# EAGLE library part ATMEGA3290/6490 (library atmel-avr)
MICROCONTROLLER
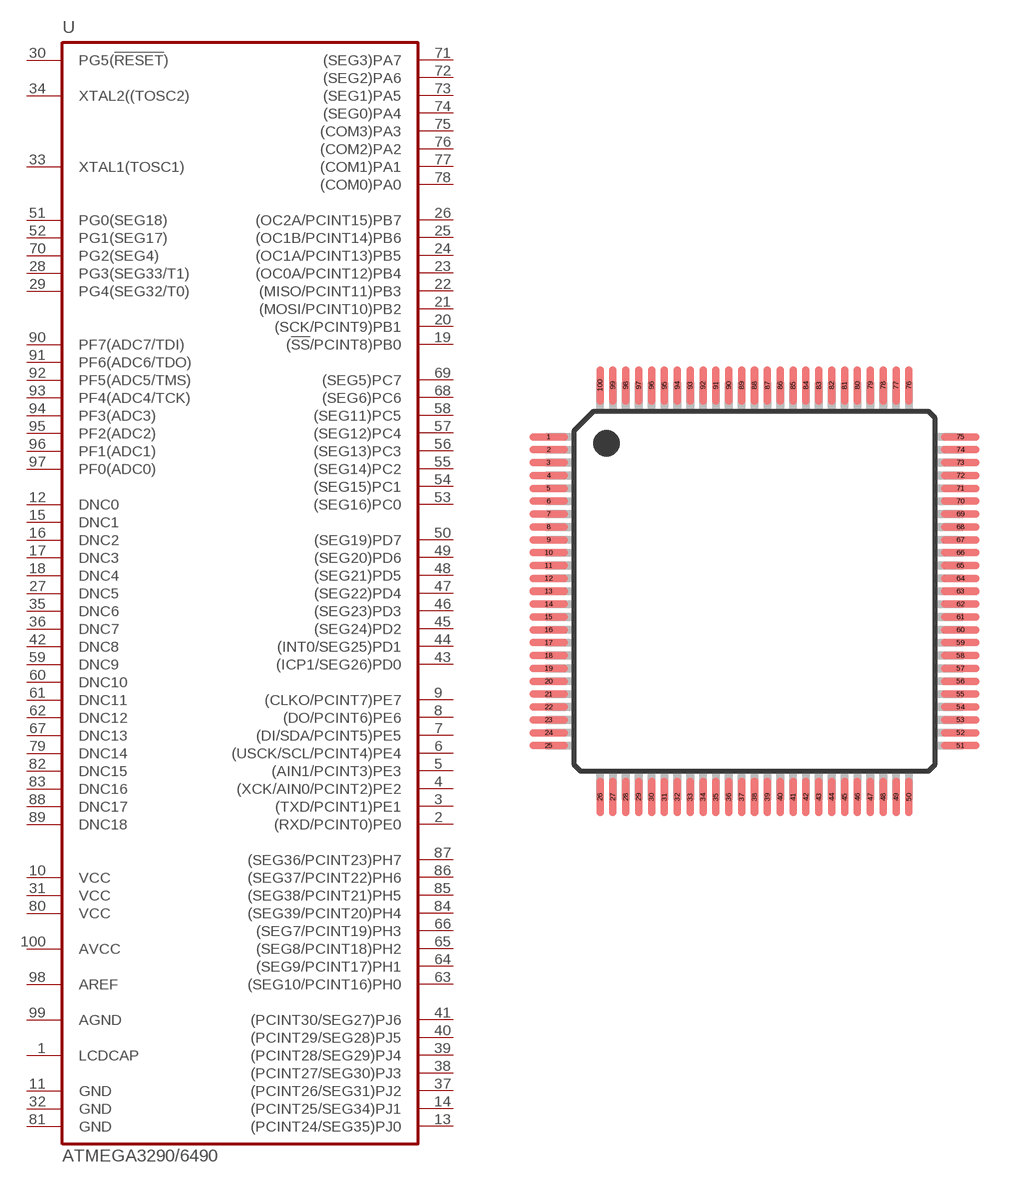
[diagram p13: symbol with the pads of TQFP100A; footprint TQFP100A]

Designator prefix U

## ATMEGA3290/6490-A  [TQFP100A]
1  LCDCAP  pas
2  (RXD/PCINT0)PE0
3  (TXD/PCINT1)PE1
4  (XCK/AIN0/PCINT2)PE2
5  (AIN1/PCINT3)PE3
6  (USCK/SCL/PCINT4)PE4
7  (DI/SDA/PCINT5)PE5
8  (DO/PCINT6)PE6
9  (CLKO/PCINT7)PE7
10  VCC  pwr
11  GND  pwr
12  DNC0  nc
13  (PCINT24/SEG35)PJ0
14  (PCINT25/SEG34)PJ1
15  DNC1  nc
16  DNC2  nc
17  DNC3  nc
18  DNC4  nc
19  (!SS!/PCINT8)PB0
20  (SCK/PCINT9)PB1
21  (MOSI/PCINT10)PB2
22  (MISO/PCINT11)PB3
23  (OC0A/PCINT12)PB4
24  (OC1A/PCINT13)PB5
25  (OC1B/PCINT14)PB6
26  (OC2A/PCINT15)PB7
27  DNC5  nc
28  PG3(SEG33/T1)
29  PG4(SEG32/T0)
30  PG5(!RESET!)  in
31  VCC  pwr
32  GND  pwr
33  XTAL1(TOSC1)  pas
34  XTAL2((TOSC2)  pas
35  DNC6  nc
36  DNC7  nc
37  (PCINT26/SEG31)PJ2
38  (PCINT27/SEG30)PJ3
39  (PCINT28/SEG29)PJ4
40  (PCINT29/SEG28)PJ5
41  (PCINT30/SEG27)PJ6
42  DNC8  nc
43  (ICP1/SEG26)PD0
44  (INT0/SEG25)PD1
45  (SEG24)PD2
46  (SEG23)PD3
47  (SEG22)PD4
48  (SEG21)PD5
49  (SEG20)PD6
50  (SEG19)PD7
51  PG0(SEG18)
52  PG1(SEG17)
53  (SEG16)PC0
54  (SEG15)PC1
55  (SEG14)PC2
56  (SEG13)PC3
57  (SEG12)PC4
58  (SEG11)PC5
59  DNC9  nc
60  DNC10  nc
61  DNC11  nc
62  DNC12  nc
63  (SEG10/PCINT16)PH0
64  (SEG9/PCINT17)PH1
65  (SEG8/PCINT18)PH2
66  (SEG7/PCINT19)PH3
67  DNC13  nc
68  (SEG6)PC6
69  (SEG5)PC7
70  PG2(SEG4)
71  (SEG3)PA7
72  (SEG2)PA6
73  (SEG1)PA5
74  (SEG0)PA4
75  (COM3)PA3
76  (COM2)PA2
77  (COM1)PA1
78  (COM0)PA0
79  DNC14  nc
80  VCC  pwr
81  GND  pwr
82  DNC15  nc
83  DNC16  nc
84  (SEG39/PCINT20)PH4
85  (SEG38/PCINT21)PH5
86  (SEG37/PCINT22)PH6
87  (SEG36/PCINT23)PH7
88  DNC17  nc
89  DNC18  nc
90  PF7(ADC7/TDI)  in
91  PF6(ADC6/TDO)  out
92  PF5(ADC5/TMS)  in
93  PF4(ADC4/TCK)  in
94  PF3(ADC3)
95  PF2(ADC2)
96  PF1(ADC1)
97  PF0(ADC0)
98  AREF  pas
99  AGND  pwr
100  AVCC  pwr

## Footprint TQFP100A (pad centres in mm)
Thin Profile Plastic Quad Flat Package (TQFP) 100-lead, 14 x 14 mm Body Size, 1.0 mm Body Thickness, 0.5 mm Lead Pitch,
smd 1.5 x 0.3: 1 -8,6; 2 -8,5.5; 3 -8,5; 4 -8,4.5; 5 -8,4; 6 -8,3.5; 7 -8,3; 8 -8,2.5; 9 -8,2; 10 -8,1.5; 11 -8,1; 12 -8,0.5; 13 -8,0; 14 -8,-0.5; 15 -8,-1; 16 -8,-1.5; 17 -8,-2; 18 -8,-2.5; 19 -8,-3; 20 -8,-3.5; 21 -8,-4; 22 -8,-4.5; 23 -8,-5; 24 -8,-5.5; 25 -8,-6; 51 8,-6; 52 8,-5.5; 53 8,-5; 54 8,-4.5; 55 8,-4; 56 8,-3.5; 57 8,-3; 58 8,-2.5; 59 8,-2; 60 8,-1.5; 61 8,-1; 62 8,-0.5; 63 8,0; 64 8,0.5; 65 8,1; 66 8,1.5; 67 8,2; 68 8,2.5; 69 8,3; 70 8,3.5; 71 8,4; 72 8,4.5; 73 8,5; 74 8,5.5; 75 8,6
smd 0.3 x 1.5: 26 -6,-8; 27 -5.5,-8; 28 -5,-8; 29 -4.5,-8; 30 -4,-8; 31 -3.5,-8; 32 -3,-8; 33 -2.5,-8; 34 -2,-8; 35 -1.5,-8; 36 -1,-8; 37 -0.5,-8; 38 0,-8; 39 0.5,-8; 40 1,-8; 41 1.5,-8; 42 2,-8; 43 2.5,-8; 44 3,-8; 45 3.5,-8; 46 4,-8; 47 4.5,-8; 48 5,-8; 49 5.5,-8; 50 6,-8; 76 6,8; 77 5.5,8; 78 5,8; 79 4.5,8; 80 4,8; 81 3.5,8; 82 3,8; 83 2.5,8; 84 2,8; 85 1.5,8; 86 1,8; 87 0.5,8; 88 0,8; 89 -0.5,8; 90 -1,8; 91 -1.5,8; 92 -2,8; 93 -2.5,8; 94 -3,8; 95 -3.5,8; 96 -4,8; 97 -4.5,8; 98 -5,8; 99 -5.5,8; 100 -6,8